# Altium footprint library Crystals.PcbLib: 3 footprints
Each footprint in its own frame and in the unit in brackets; x right, y up, seen from the top. Pads: shape width x height; smd on the part's side, far side on the other; paste and mask are expansions set on the pad; w line width, h text height; cw(c..) or ccw(c..) is an arc to the next point about the centre after c.
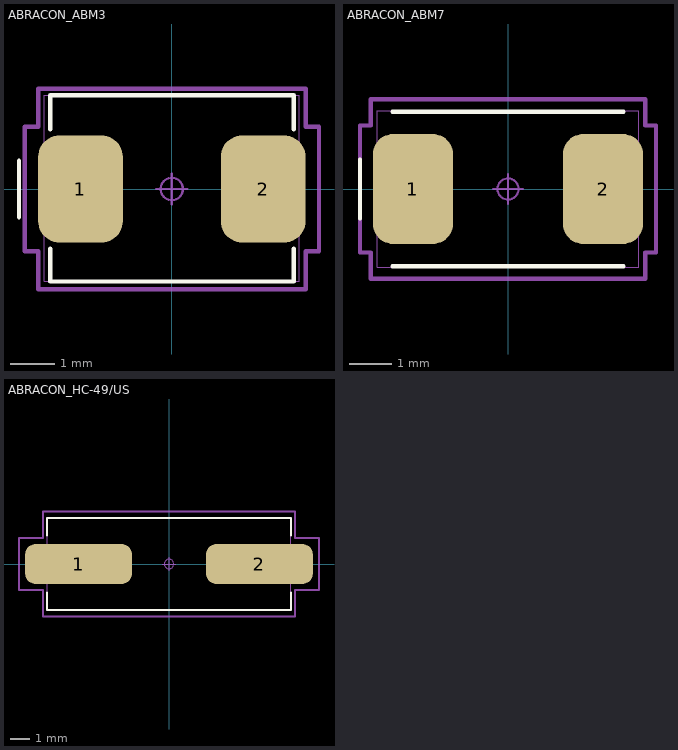
[diagram p0: the footprints below, top view; thin cyan lines are the x and y axes]

## ABRACON_ABM3 [mm]
pads (2):
  rrect50% 1.9x2.4 smd paste+0 mask+0.04: 1(-2.05,0) 2(2.05,0)
Top Overlay:
  lines w0.1: -3.429,-0.635 -3.429,0.635 ; -2.73,-1.336 -2.73,-2.075 2.73,-2.075 2.73,-1.336 ; -2.73,1.336 -2.73,2.1 2.73,2.1 2.73,1.336
Mechanical 13:
  circle w0.025: c-2.095,0 r0.076
  lines w0.025: -2.857,-2.075 -2.857,2.1 2.857,2.1 2.857,-2.075 -2.857,-2.075
Mechanical 15:
  circle w0.05: c0,0 r0.25
  lines w0.05: -0.35,0 0.35,0 ; 0,-0.35 0,0.35
  lines w0.1: -3.302,-1.397 -3.302,1.397 -3,1.397 -3,2.25 3,2.25 3,1.397 3.302,1.397 3.302,-1.397 3,-1.397 3,-2.25 -3,-2.25 -3,-1.397 -3.302,-1.397
3D body "XTAL_ABM3-8000MHZ-D2Y-T_ABR.step": height 1.3, standoff 0, extent -2.864,-2.089 2.864,2.089

## ABRACON_ABM7 [mm]
pads (2):
  rrect50% 1.9x2.6 smd paste+0 mask+0.04: 1(-2.25,0) 2(2.25,0)
Top Overlay:
  lines w0.1: -3.5,-0.7 -3.5,0.7 ; -2.73,-1.829 2.73,-1.829 ; -2.73,1.829 2.73,1.829
Mechanical 13:
  circle w0.025: c-2.095,0 r0.076
  lines w0.025: -3.1,-1.85 3.1,-1.85 3.1,1.85 -3.1,1.85 -3.1,-1.85
Mechanical 15:
  circle w0.05: c0,0 r0.25
  lines w0.05: -0.35,0 0.35,0 ; 0,-0.35 0,0.35
  lines w0.1: -3.5,-1.5 -3.25,-1.5 -3.25,-2.125 3.25,-2.125 3.25,-1.5 3.5,-1.5 3.5,1.5 3.25,1.5 3.25,2.125 -3.25,2.125 -3.25,1.5 -3.5,1.5 -3.5,-1.5
3D body "Library-ABM7.step": height 1.39, standoff -0.01, extent -3.1,-1.85 3.1,1.85

## ABRACON_HC-49/US [mm]
pads (2):
  rrect50% 5.6x2.1 smd: 1(-4.75,0) 2(4.75,0)
Top Overlay:
  lines w0.1: -6.4,-1.5 -6.4,-2.425 6.4,-2.425 6.4,-1.5 ; -6.4,1.5 -6.4,2.425 6.4,2.425 6.4,1.5
Mechanical 13:
  lines w0.025: -6.35,-0.5 -6.85,-0.5 -6.85,0.5 -6.35,0.5 ; 6.35,-0.5 6.85,-0.5 6.85,0.5 6.35,0.5 ; -6.4,-2.425 6.4,-2.425 6.4,2.425 -6.4,2.425 -6.4,-2.425
Mechanical 15:
  circle w0.05: c0,0 r0.25
  lines w0.05: -0.35,0 0.35,0 ; 0,-0.35 0,0.35
  lines w0.1: -7.875,-1.375 -6.625,-1.375 -6.625,-2.75 6.625,-2.75 6.625,-1.375 7.875,-1.375 7.875,1.375 6.625,1.375 6.625,2.75 -6.625,2.75 -6.625,1.375 -7.875,1.375 -7.875,-1.375
3D body "User Library-Crystal HC49_US-SM.step": height 4.3, standoff 0, extent -6.4,-2.415 6.4,2.415